# Altium schematic symbol library Diode_Zener.Schlib: 1 symbol
Pins are listed as number, name and electrical type; pins without a type are passive.

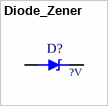
[diagram p0: symbol Diode_Zener]

## Diode_Zener
designator D?  Zener Voltage: ?V
footprint Diode_TINY
footprint SMD ZENER DIODE DIODES INC
pins: 1, 2